# Altium schematic symbol library LT1963AEST.SchLib: 1 symbol
Pins are listed as number, name and electrical type; pins without a type are passive.

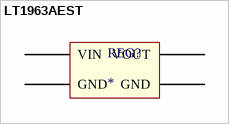
[diagram p0: symbol LT1963AEST]

## LT1963AEST
designator REG?
pins: 1 VIN, 2 GND, 3 VOUT, 4 GND